# Altium schematic symbol library jlcpcb_2025_04_ferrites_extended_0805.schlib: 546 symbols (part 9 of 10)
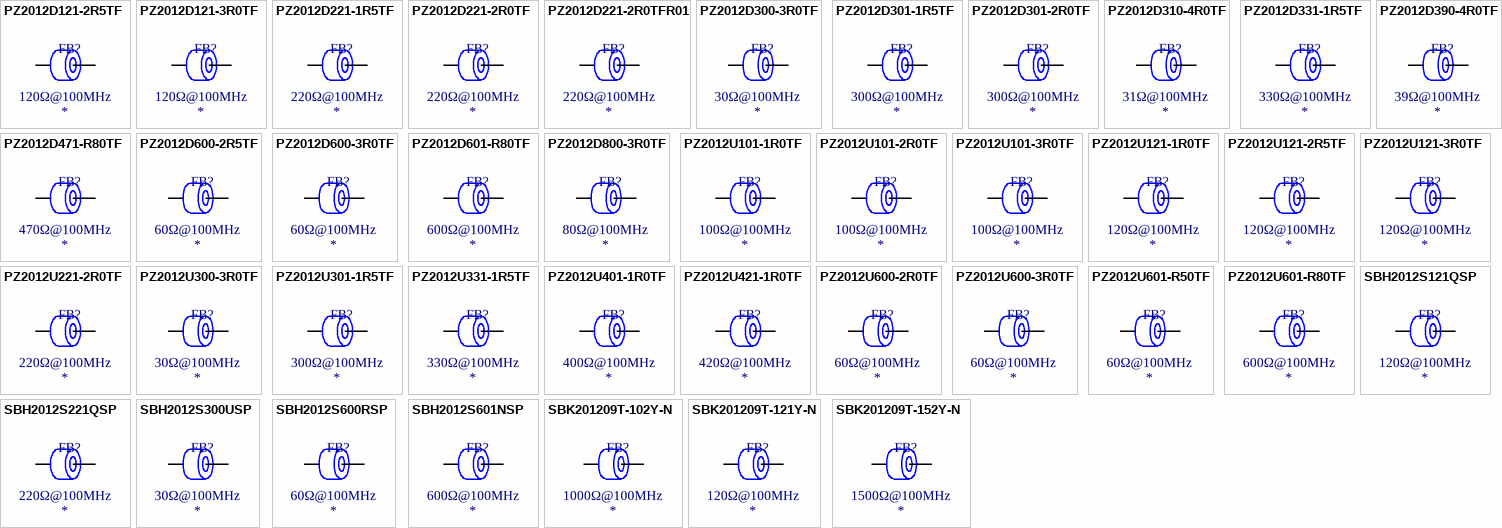
[diagram p21: symbols PZ2012D121-2R5TF to SBK201209T-152Y-N]

## PZ2012D471-R80TF
designator FB?  Impedance @ Frequency: 470Ω@100MHz
Ferrite, 470Ω@100MHz, ±25%, 0.25Ω, 800mA, SMD 0805; Manufacturer: Sunlord; Manufacturer Part Number: PZ2012D471-R80TF; Package Size: 0805; JLCPCB Basic Part: No; JLCPCB Part Number: C316419; Supplier 1: LCSC; Category: Ferrite Beads; Supplier Part Number 1: C316419; Tolerance: ±25%; Rated Current: 800mA; DC Resistance: 0.25Ω; RoHS: Yes; ComponentLink1Description: Datasheet; ComponentLink1URL: https://wmsc.lcsc.com/wmsc/upload/file/pdf/v2/lcsc/2310301641_Sunlord-PZ2012D471-R80TF_C316419.pdf; ComponentLink2Description: JLCPCB Part URL; ComponentLink2URL: https://jlcpcb.com/partdetail/C316419; ComponentLink3Description: LCSC Part URL; ComponentLink3URL: https://lcsc.com/product-detail/Ferrite-Beads_Sunlord-Sunlord-PZ2012D471-R80TF_C316419.html
footprint FB-0805 (0805 (2012M) Ferrite)
pins: 1, 2

## PZ2012D600-2R5TF
designator FB?  Impedance @ Frequency: 60Ω@100MHz
Ferrite, 60Ω@100MHz, ±25%, 2.5A, SMD 0805; Manufacturer: Sunlord; Manufacturer Part Number: PZ2012D600-2R5TF; Package Size: 0805; JLCPCB Basic Part: No; JLCPCB Part Number: C370077; Supplier 1: LCSC; Category: Ferrite Beads; Supplier Part Number 1: C370077; Tolerance: ±25%; Rated Current: 2.5A; RoHS: Yes; ComponentLink1Description: Datasheet; ComponentLink1URL: https://wmsc.lcsc.com/wmsc/upload/file/pdf/v2/lcsc/2310301641_Sunlord-PZ2012D600-2R5TF_C370077.pdf; ComponentLink2Description: JLCPCB Part URL; ComponentLink2URL: https://jlcpcb.com/partdetail/C370077; ComponentLink3Description: LCSC Part URL; ComponentLink3URL: https://lcsc.com/product-detail/Ferrite-Beads_Sunlord-Sunlord-PZ2012D600-2R5TF_C370077.html
pins: 1, 2

## PZ2012D600-3R0TF
designator FB?  Impedance @ Frequency: 60Ω@100MHz
Ferrite, 60Ω@100MHz, ±25%, 3A, SMD 0805; Manufacturer: Sunlord; Manufacturer Part Number: PZ2012D600-3R0TF; Package Size: 0805; JLCPCB Basic Part: No; JLCPCB Part Number: C59452; Supplier 1: LCSC; Category: Ferrite Beads; Supplier Part Number 1: C59452; Tolerance: ±25%; Rated Current: 3A; RoHS: Yes; ComponentLink1Description: Datasheet; ComponentLink1URL: https://wmsc.lcsc.com/wmsc/upload/file/pdf/v2/lcsc/2310301641_Sunlord-PZ2012D600-3R0TF_C59452.pdf; ComponentLink2Description: JLCPCB Part URL; ComponentLink2URL: https://jlcpcb.com/partdetail/C59452; ComponentLink3Description: LCSC Part URL; ComponentLink3URL: https://lcsc.com/product-detail/Ferrite-Beads_Sunlord-Sunlord-PZ2012D600-3R0TF_C59452.html
pins: 1, 2

## PZ2012D601-R80TF
designator FB?  Impedance @ Frequency: 600Ω@100MHz
Ferrite, 600Ω@100MHz, ±25%, 0.25Ω, 800mA, SMD 0805; Manufacturer: Sunlord; Manufacturer Part Number: PZ2012D601-R80TF; Package Size: 0805; JLCPCB Basic Part: No; JLCPCB Part Number: C74543; Supplier 1: LCSC; Category: Ferrite Beads; Supplier Part Number 1: C74543; Tolerance: ±25%; Rated Current: 800mA; DC Resistance: 0.25Ω; RoHS: Yes; ComponentLink1Description: Datasheet; ComponentLink1URL: https://wmsc.lcsc.com/wmsc/upload/file/pdf/v2/lcsc/2310301641_Sunlord-PZ2012D601-R80TF_C74543.pdf; ComponentLink2Description: JLCPCB Part URL; ComponentLink2URL: https://jlcpcb.com/partdetail/C74543; ComponentLink3Description: LCSC Part URL; ComponentLink3URL: https://lcsc.com/product-detail/Ferrite-Beads_Sunlord-Sunlord-PZ2012D601-R80TF_C74543.html
footprint FB-0805 (0805 (2012M) Ferrite)
pins: 1, 2

## PZ2012D800-3R0TF
designator FB?  Impedance @ Frequency: 80Ω@100MHz
Ferrite, 80Ω@100MHz, ±25%, 0.04Ω, 3000mA, SMD 0805; Manufacturer: Sunlord; Manufacturer Part Number: PZ2012D800-3R0TF; Package Size: 0805; JLCPCB Basic Part: No; JLCPCB Part Number: C12389; Supplier 1: LCSC; Category: Ferrite Beads; Supplier Part Number 1: C12389; Tolerance: ±25%; Rated Current: 3000mA; DC Resistance: 0.04Ω; RoHS: Yes; ComponentLink1Description: Datasheet; ComponentLink1URL: https://wmsc.lcsc.com/wmsc/upload/file/pdf/v2/lcsc/2310301641_Sunlord-PZ2012D800-3R0TF_C12389.pdf; ComponentLink2Description: JLCPCB Part URL; ComponentLink2URL: https://jlcpcb.com/partdetail/C12389; ComponentLink3Description: LCSC Part URL; ComponentLink3URL: https://lcsc.com/product-detail/Ferrite-Beads_Sunlord-Sunlord-PZ2012D800-3R0TF_C12389.html
footprint FB-0805 (0805 (2012M) Ferrite)
pins: 1, 2

## PZ2012U101-1R0TF
designator FB?  Impedance @ Frequency: 100Ω@100MHz
Ferrite, 100Ω@100MHz, ±25%, 1A, SMD 0805; Manufacturer: Sunlord; Manufacturer Part Number: PZ2012U101-1R0TF; Package Size: 0805; JLCPCB Basic Part: No; JLCPCB Part Number: C370078; Supplier 1: LCSC; Category: Ferrite Beads; Supplier Part Number 1: C370078; Tolerance: ±25%; Rated Current: 1A; RoHS: Yes; ComponentLink1Description: Datasheet; ComponentLink1URL: https://wmsc.lcsc.com/wmsc/upload/file/pdf/v2/lcsc/2310301641_Sunlord-PZ2012U101-1R0TF_C370078.pdf; ComponentLink2Description: JLCPCB Part URL; ComponentLink2URL: https://jlcpcb.com/partdetail/C370078; ComponentLink3Description: LCSC Part URL; ComponentLink3URL: https://lcsc.com/product-detail/Ferrite-Beads_Sunlord-Sunlord-PZ2012U101-1R0TF_C370078.html
pins: 1, 2

## PZ2012U101-2R0TF
designator FB?  Impedance @ Frequency: 100Ω@100MHz
Ferrite, 100Ω@100MHz, ±25%, 2A, SMD 0805; Manufacturer: Sunlord; Manufacturer Part Number: PZ2012U101-2R0TF; Package Size: 0805; JLCPCB Basic Part: No; JLCPCB Part Number: C370079; Supplier 1: LCSC; Category: Ferrite Beads; Supplier Part Number 1: C370079; Tolerance: ±25%; Rated Current: 2A; RoHS: Yes; ComponentLink1Description: Datasheet; ComponentLink1URL: https://wmsc.lcsc.com/wmsc/upload/file/pdf/v2/lcsc/2310301641_Sunlord-PZ2012U101-2R0TF_C370079.pdf; ComponentLink2Description: JLCPCB Part URL; ComponentLink2URL: https://jlcpcb.com/partdetail/C370079; ComponentLink3Description: LCSC Part URL; ComponentLink3URL: https://lcsc.com/product-detail/Ferrite-Beads_Sunlord-Sunlord-PZ2012U101-2R0TF_C370079.html
pins: 1, 2

## PZ2012U101-3R0TF
designator FB?  Impedance @ Frequency: 100Ω@100MHz
Ferrite, 100Ω@100MHz, ±25%, 3A, SMD 0805; Manufacturer: Sunlord; Manufacturer Part Number: PZ2012U101-3R0TF; Package Size: 0805; JLCPCB Basic Part: No; JLCPCB Part Number: C370080; Supplier 1: LCSC; Category: Ferrite Beads; Supplier Part Number 1: C370080; Tolerance: ±25%; Rated Current: 3A; RoHS: Yes; ComponentLink1Description: Datasheet; ComponentLink1URL: https://wmsc.lcsc.com/wmsc/upload/file/pdf/v2/lcsc/2310301641_Sunlord-PZ2012U101-3R0TF_C370080.pdf; ComponentLink2Description: JLCPCB Part URL; ComponentLink2URL: https://jlcpcb.com/partdetail/C370080; ComponentLink3Description: LCSC Part URL; ComponentLink3URL: https://lcsc.com/product-detail/Ferrite-Beads_Sunlord-Sunlord-PZ2012U101-3R0TF_C370080.html
pins: 1, 2

## PZ2012U121-1R0TF
designator FB?  Impedance @ Frequency: 120Ω@100MHz
Ferrite, 120Ω@100MHz, ±25%, 1A, SMD 0805; Manufacturer: Sunlord; Manufacturer Part Number: PZ2012U121-1R0TF; Package Size: 0805; JLCPCB Basic Part: No; JLCPCB Part Number: C370081; Supplier 1: LCSC; Category: Ferrite Beads; Supplier Part Number 1: C370081; Tolerance: ±25%; Rated Current: 1A; RoHS: Yes; ComponentLink1Description: Datasheet; ComponentLink1URL: https://wmsc.lcsc.com/wmsc/upload/file/pdf/v2/lcsc/2310301641_Sunlord-PZ2012U121-1R0TF_C370081.pdf; ComponentLink2Description: JLCPCB Part URL; ComponentLink2URL: https://jlcpcb.com/partdetail/C370081; ComponentLink3Description: LCSC Part URL; ComponentLink3URL: https://lcsc.com/product-detail/Ferrite-Beads_Sunlord-Sunlord-PZ2012U121-1R0TF_C370081.html
pins: 1, 2

## PZ2012U121-2R5TF
designator FB?  Impedance @ Frequency: 120Ω@100MHz
Ferrite, 120Ω@100MHz, ±25%, 0.04Ω, 2500mA, SMD 0805; Manufacturer: Sunlord; Manufacturer Part Number: PZ2012U121-2R5TF; Package Size: 0805; JLCPCB Basic Part: No; JLCPCB Part Number: C370083; Supplier 1: LCSC; Category: Ferrite Beads; Supplier Part Number 1: C370083; Tolerance: ±25%; Rated Current: 2500mA; DC Resistance: 0.04Ω; RoHS: Yes; ComponentLink1Description: Datasheet; ComponentLink1URL: https://wmsc.lcsc.com/wmsc/upload/file/pdf/v2/lcsc/2310301641_Sunlord-PZ2012U121-2R5TF_C370083.pdf; ComponentLink2Description: JLCPCB Part URL; ComponentLink2URL: https://jlcpcb.com/partdetail/C370083; ComponentLink3Description: LCSC Part URL; ComponentLink3URL: https://lcsc.com/product-detail/Ferrite-Beads_Sunlord-Sunlord-PZ2012U121-2R5TF_C370083.html
footprint FB-0805 (0805 (2012M) Ferrite)
pins: 1, 2

## PZ2012U121-3R0TF
designator FB?  Impedance @ Frequency: 120Ω@100MHz
Ferrite, 120Ω@100MHz, ±25%, 3A, SMD 0805; Manufacturer: Sunlord; Manufacturer Part Number: PZ2012U121-3R0TF; Package Size: 0805; JLCPCB Basic Part: No; JLCPCB Part Number: C370084; Supplier 1: LCSC; Category: Ferrite Beads; Supplier Part Number 1: C370084; Tolerance: ±25%; Rated Current: 3A; RoHS: Yes; ComponentLink1Description: Datasheet; ComponentLink1URL: https://wmsc.lcsc.com/wmsc/upload/file/pdf/v2/lcsc/2310301641_Sunlord-PZ2012U121-3R0TF_C370084.pdf; ComponentLink2Description: JLCPCB Part URL; ComponentLink2URL: https://jlcpcb.com/partdetail/C370084; ComponentLink3Description: LCSC Part URL; ComponentLink3URL: https://lcsc.com/product-detail/Ferrite-Beads_Sunlord-Sunlord-PZ2012U121-3R0TF_C370084.html
pins: 1, 2

## PZ2012U221-2R0TF
designator FB?  Impedance @ Frequency: 220Ω@100MHz
Ferrite, 220Ω@100MHz, ±25%, 0.07Ω, 2000mA, SMD 0805; Manufacturer: Sunlord; Manufacturer Part Number: PZ2012U221-2R0TF; Package Size: 0805; JLCPCB Basic Part: No; JLCPCB Part Number: C44361; Supplier 1: LCSC; Category: Ferrite Beads; Supplier Part Number 1: C44361; Tolerance: ±25%; Rated Current: 2000mA; DC Resistance: 0.07Ω; RoHS: Yes; ComponentLink1Description: Datasheet; ComponentLink1URL: https://wmsc.lcsc.com/wmsc/upload/file/pdf/v2/lcsc/2310301641_Sunlord-PZ2012U221-2R0TF_C44361.pdf; ComponentLink2Description: JLCPCB Part URL; ComponentLink2URL: https://jlcpcb.com/partdetail/C44361; ComponentLink3Description: LCSC Part URL; ComponentLink3URL: https://lcsc.com/product-detail/Ferrite-Beads_Sunlord-Sunlord-PZ2012U221-2R0TF_C44361.html
footprint FB-0805 (0805 (2012M) Ferrite)
pins: 1, 2

## PZ2012U300-3R0TF
designator FB?  Impedance @ Frequency: 30Ω@100MHz
Ferrite, 30Ω@100MHz, ±25%, 0.02Ω, 3000mA, SMD 0805; Manufacturer: Sunlord; Manufacturer Part Number: PZ2012U300-3R0TF; Package Size: 0805; JLCPCB Basic Part: No; JLCPCB Part Number: C316418; Supplier 1: LCSC; Category: Ferrite Beads; Supplier Part Number 1: C316418; Tolerance: ±25%; Rated Current: 3000mA; DC Resistance: 0.02Ω; RoHS: Yes; ComponentLink1Description: Datasheet; ComponentLink1URL: https://wmsc.lcsc.com/wmsc/upload/file/pdf/v2/lcsc/2310301641_Sunlord-PZ2012U300-3R0TF_C316418.pdf; ComponentLink2Description: JLCPCB Part URL; ComponentLink2URL: https://jlcpcb.com/partdetail/C316418; ComponentLink3Description: LCSC Part URL; ComponentLink3URL: https://lcsc.com/product-detail/Ferrite-Beads_Sunlord-Sunlord-PZ2012U300-3R0TF_C316418.html
footprint FB-0805 (0805 (2012M) Ferrite)
pins: 1, 2

## PZ2012U301-1R5TF
designator FB?  Impedance @ Frequency: 300Ω@100MHz
Ferrite, 300Ω@100MHz, ±25%, 0.1Ω, 1500mA, SMD 0805; Manufacturer: Sunlord; Manufacturer Part Number: PZ2012U301-1R5TF; Package Size: 0805; JLCPCB Basic Part: No; JLCPCB Part Number: C98291; Supplier 1: LCSC; Category: Ferrite Beads; Supplier Part Number 1: C98291; Tolerance: ±25%; Rated Current: 1500mA; DC Resistance: 0.1Ω; RoHS: Yes; ComponentLink1Description: Datasheet; ComponentLink1URL: https://wmsc.lcsc.com/wmsc/upload/file/pdf/v2/lcsc/2310301641_Sunlord-PZ2012U301-1R5TF_C98291.pdf; ComponentLink2Description: JLCPCB Part URL; ComponentLink2URL: https://jlcpcb.com/partdetail/C98291; ComponentLink3Description: LCSC Part URL; ComponentLink3URL: https://lcsc.com/product-detail/Ferrite-Beads_Sunlord-Sunlord-PZ2012U301-1R5TF_C98291.html
footprint FB-0805 (0805 (2012M) Ferrite)
pins: 1, 2

## PZ2012U331-1R5TF
designator FB?  Impedance @ Frequency: 330Ω@100MHz
Ferrite, 330Ω@100MHz, ±25%, 1.5A, SMD 0805; Manufacturer: Sunlord; Manufacturer Part Number: PZ2012U331-1R5TF; Package Size: 0805; JLCPCB Basic Part: No; JLCPCB Part Number: C279860; Supplier 1: LCSC; Category: Ferrite Beads; Supplier Part Number 1: C279860; Tolerance: ±25%; Rated Current: 1.5A; RoHS: Yes; ComponentLink1Description: Datasheet; ComponentLink1URL: https://wmsc.lcsc.com/wmsc/upload/file/pdf/v2/lcsc/2310301641_Sunlord-PZ2012U331-1R5TF_C279860.pdf; ComponentLink2Description: JLCPCB Part URL; ComponentLink2URL: https://jlcpcb.com/partdetail/C279860; ComponentLink3Description: LCSC Part URL; ComponentLink3URL: https://lcsc.com/product-detail/Ferrite-Beads_Sunlord-Sunlord-PZ2012U331-1R5TF_C279860.html
pins: 1, 2

## PZ2012U401-1R0TF
designator FB?  Impedance @ Frequency: 400Ω@100MHz
Ferrite, 400Ω@100MHz, ±25%, 1A, SMD 0805; Manufacturer: Sunlord; Manufacturer Part Number: PZ2012U401-1R0TF; Package Size: 0805; JLCPCB Basic Part: No; JLCPCB Part Number: C919154; Supplier 1: LCSC; Category: Ferrite Beads; Supplier Part Number 1: C919154; Tolerance: ±25%; Rated Current: 1A; RoHS: Yes; ComponentLink1Description: Datasheet; ComponentLink1URL: https://wmsc.lcsc.com/wmsc/upload/file/pdf/v2/lcsc/2310301641_Sunlord-PZ2012U401-1R0TF_C919154.pdf; ComponentLink2Description: JLCPCB Part URL; ComponentLink2URL: https://jlcpcb.com/partdetail/C919154; ComponentLink3Description: LCSC Part URL; ComponentLink3URL: https://lcsc.com/product-detail/Ferrite-Beads_Sunlord-Sunlord-PZ2012U401-1R0TF_C919154.html
pins: 1, 2

## PZ2012U421-1R0TF
designator FB?  Impedance @ Frequency: 420Ω@100MHz
Ferrite, 420Ω@100MHz, ±25%, 0.2Ω, 1A, SMD 0805; Manufacturer: Sunlord; Manufacturer Part Number: PZ2012U421-1R0TF; Package Size: 0805; JLCPCB Basic Part: No; JLCPCB Part Number: C370086; Supplier 1: LCSC; Category: Ferrite Beads; Supplier Part Number 1: C370086; Tolerance: ±25%; Rated Current: 1A; DC Resistance: 0.2Ω; RoHS: Yes; ComponentLink1Description: Datasheet; ComponentLink1URL: https://wmsc.lcsc.com/wmsc/upload/file/pdf/v2/lcsc/2310301641_Sunlord-PZ2012U421-1R0TF_C370086.pdf; ComponentLink2Description: JLCPCB Part URL; ComponentLink2URL: https://jlcpcb.com/partdetail/C370086; ComponentLink3Description: LCSC Part URL; ComponentLink3URL: https://lcsc.com/product-detail/Ferrite-Beads_Sunlord-Sunlord-PZ2012U421-1R0TF_C370086.html
footprint FB-0805 (0805 (2012M) Ferrite)
pins: 1, 2

## PZ2012U600-2R0TF
designator FB?  Impedance @ Frequency: 60Ω@100MHz
Ferrite, 60Ω@100MHz, ±25%, 2A, SMD 0805; Manufacturer: Sunlord; Manufacturer Part Number: PZ2012U600-2R0TF; Package Size: 0805; JLCPCB Basic Part: No; JLCPCB Part Number: C370087; Supplier 1: LCSC; Category: Ferrite Beads; Supplier Part Number 1: C370087; Tolerance: ±25%; Rated Current: 2A; RoHS: Yes; ComponentLink1Description: Datasheet; ComponentLink1URL: https://wmsc.lcsc.com/wmsc/upload/file/pdf/v2/lcsc/2310301641_Sunlord-PZ2012U600-2R0TF_C370087.pdf; ComponentLink2Description: JLCPCB Part URL; ComponentLink2URL: https://jlcpcb.com/partdetail/C370087; ComponentLink3Description: LCSC Part URL; ComponentLink3URL: https://lcsc.com/product-detail/Ferrite-Beads_Sunlord-Sunlord-PZ2012U600-2R0TF_C370087.html
pins: 1, 2

## PZ2012U600-3R0TF
designator FB?  Impedance @ Frequency: 60Ω@100MHz
Ferrite, 60Ω@100MHz, ±25%, 0.025Ω, 3000mA, SMD 0805; Manufacturer: Sunlord; Manufacturer Part Number: PZ2012U600-3R0TF; Package Size: 0805; JLCPCB Basic Part: No; JLCPCB Part Number: C44362; Supplier 1: LCSC; Category: Ferrite Beads; Supplier Part Number 1: C44362; Tolerance: ±25%; Rated Current: 3000mA; DC Resistance: 0.025Ω; RoHS: Yes; ComponentLink1Description: Datasheet; ComponentLink1URL: https://wmsc.lcsc.com/wmsc/upload/file/pdf/v2/lcsc/2310301641_Sunlord-PZ2012U600-3R0TF_C44362.pdf; ComponentLink2Description: JLCPCB Part URL; ComponentLink2URL: https://jlcpcb.com/partdetail/C44362; ComponentLink3Description: LCSC Part URL; ComponentLink3URL: https://lcsc.com/product-detail/Ferrite-Beads_Sunlord-Sunlord-PZ2012U600-3R0TF_C44362.html
footprint FB-0805 (0805 (2012M) Ferrite)
pins: 1, 2

## PZ2012U601-R50TF
designator FB?  Impedance @ Frequency: 60Ω@100MHz
Ferrite, 60Ω@100MHz, ±25%, 0.5A, SMD 0805; Manufacturer: Sunlord; Manufacturer Part Number: PZ2012U601-R50TF; Package Size: 0805; JLCPCB Basic Part: No; JLCPCB Part Number: C370088; Supplier 1: LCSC; Category: Ferrite Beads; Supplier Part Number 1: C370088; Tolerance: ±25%; Rated Current: 0.5A; RoHS: Yes; ComponentLink1Description: Datasheet; ComponentLink1URL: https://wmsc.lcsc.com/wmsc/upload/file/pdf/v2/lcsc/2310301641_Sunlord-PZ2012U601-R50TF_C370088.pdf; ComponentLink2Description: JLCPCB Part URL; ComponentLink2URL: https://jlcpcb.com/partdetail/C370088; ComponentLink3Description: LCSC Part URL; ComponentLink3URL: https://lcsc.com/product-detail/Ferrite-Beads_Sunlord-Sunlord-PZ2012U601-R50TF_C370088.html
pins: 1, 2

## PZ2012U601-R80TF
designator FB?  Impedance @ Frequency: 600Ω@100MHz
Ferrite, 600Ω@100MHz, ±25%, 0.25Ω, 800mA, SMD 0805; Manufacturer: Sunlord; Manufacturer Part Number: PZ2012U601-R80TF; Package Size: 0805; JLCPCB Basic Part: No; JLCPCB Part Number: C279926; Supplier 1: LCSC; Category: Ferrite Beads; Supplier Part Number 1: C279926; Tolerance: ±25%; Rated Current: 800mA; DC Resistance: 0.25Ω; RoHS: Yes; ComponentLink1Description: Datasheet; ComponentLink1URL: https://wmsc.lcsc.com/wmsc/upload/file/pdf/v2/lcsc/2310301641_Sunlord-PZ2012U601-R80TF_C279926.pdf; ComponentLink2Description: JLCPCB Part URL; ComponentLink2URL: https://jlcpcb.com/partdetail/C279926; ComponentLink3Description: LCSC Part URL; ComponentLink3URL: https://lcsc.com/product-detail/Ferrite-Beads_Sunlord-Sunlord-PZ2012U601-R80TF_C279926.html
footprint FB-0805 (0805 (2012M) Ferrite)
pins: 1, 2

## SBH2012S121QSP
designator FB?  Impedance @ Frequency: 120Ω@100MHz
Ferrite, 120Ω@100MHz, ±25%, 55mΩ, 3A, SMD 0805; Manufacturer: Sunltech Tech; Manufacturer Part Number: SBH2012S121QSP; Package Size: 0805; JLCPCB Basic Part: No; JLCPCB Part Number: C216150; Supplier 1: LCSC; Category: Ferrite Beads; Supplier Part Number 1: C216150; Tolerance: ±25%; Rated Current: 3A; DC Resistance: 55mΩ; RoHS: Yes; ComponentLink1Description: Datasheet; ComponentLink1URL: https://wmsc.lcsc.com/wmsc/upload/file/pdf/v2/lcsc/2304140030_Sunltech-Tech-SBH2012S121QSP_C216150.pdf; ComponentLink2Description: JLCPCB Part URL; ComponentLink2URL: https://jlcpcb.com/partdetail/C216150; ComponentLink3Description: LCSC Part URL; ComponentLink3URL: https://lcsc.com/product-detail/Ferrite-Beads_Sunltech-Tech-Sunltech-Tech-SBH2012S121QSP_C216150.html
footprint FB-0805 (0805 (2012M) Ferrite)
pins: 1, 2

## SBH2012S221QSP
designator FB?  Impedance @ Frequency: 220Ω@100MHz
Ferrite, 220Ω@100MHz, ±25%, 75mΩ, 3A, SMD 0805; Manufacturer: Sunltech Tech; Manufacturer Part Number: SBH2012S221QSP; Package Size: 0805; JLCPCB Basic Part: No; JLCPCB Part Number: C216151; Supplier 1: LCSC; Category: Ferrite Beads; Supplier Part Number 1: C216151; Tolerance: ±25%; Rated Current: 3A; DC Resistance: 75mΩ; RoHS: Yes; ComponentLink1Description: Datasheet; ComponentLink1URL: https://wmsc.lcsc.com/wmsc/upload/file/pdf/v2/lcsc/2304140030_Sunltech-Tech-SBH2012S221QSP_C216151.pdf; ComponentLink2Description: JLCPCB Part URL; ComponentLink2URL: https://jlcpcb.com/partdetail/C216151; ComponentLink3Description: LCSC Part URL; ComponentLink3URL: https://lcsc.com/product-detail/Ferrite-Beads_Sunltech-Tech-Sunltech-Tech-SBH2012S221QSP_C216151.html
footprint FB-0805 (0805 (2012M) Ferrite)
pins: 1, 2

## SBH2012S300USP
designator FB?  Impedance @ Frequency: 30Ω@100MHz
Ferrite, 30Ω@100MHz, ±25%, 30mΩ, 5A, SMD 0805; Manufacturer: Sunltech Tech; Manufacturer Part Number: SBH2012S300USP; Package Size: 0805; JLCPCB Basic Part: No; JLCPCB Part Number: C216148; Supplier 1: LCSC; Category: Ferrite Beads; Supplier Part Number 1: C216148; Tolerance: ±25%; Rated Current: 5A; DC Resistance: 30mΩ; RoHS: Yes; ComponentLink1Description: Datasheet; ComponentLink1URL: https://wmsc.lcsc.com/wmsc/upload/file/pdf/v2/lcsc/2304140030_Sunltech-Tech-SBH2012S300USP_C216148.pdf; ComponentLink2Description: JLCPCB Part URL; ComponentLink2URL: https://jlcpcb.com/partdetail/C216148; ComponentLink3Description: LCSC Part URL; ComponentLink3URL: https://lcsc.com/product-detail/Ferrite-Beads_Sunltech-Tech-Sunltech-Tech-SBH2012S300USP_C216148.html
footprint FB-0805 (0805 (2012M) Ferrite)
pins: 1, 2

## SBH2012S600RSP
designator FB?  Impedance @ Frequency: 60Ω@100MHz
Ferrite, 60Ω@100MHz, ±25%, 35mΩ, 4A, SMD 0805; Manufacturer: Sunltech Tech; Manufacturer Part Number: SBH2012S600RSP; Package Size: 0805; JLCPCB Basic Part: No; JLCPCB Part Number: C216149; Supplier 1: LCSC; Category: Ferrite Beads; Supplier Part Number 1: C216149; Tolerance: ±25%; Rated Current: 4A; DC Resistance: 35mΩ; RoHS: Yes; ComponentLink1Description: Datasheet; ComponentLink1URL: https://wmsc.lcsc.com/wmsc/upload/file/pdf/v2/lcsc/2304140030_Sunltech-Tech-SBH2012S600RSP_C216149.pdf; ComponentLink2Description: JLCPCB Part URL; ComponentLink2URL: https://jlcpcb.com/partdetail/C216149; ComponentLink3Description: LCSC Part URL; ComponentLink3URL: https://lcsc.com/product-detail/Ferrite-Beads_Sunltech-Tech-Sunltech-Tech-SBH2012S600RSP_C216149.html
footprint FB-0805 (0805 (2012M) Ferrite)
pins: 1, 2

## SBH2012S601NSP
designator FB?  Impedance @ Frequency: 600Ω@100MHz
Ferrite, 600Ω@100MHz, ±25%, 90mΩ, 2A, SMD 0805; Manufacturer: Sunltech Tech; Manufacturer Part Number: SBH2012S601NSP; Package Size: 0805; JLCPCB Basic Part: No; JLCPCB Part Number: C216152; Supplier 1: LCSC; Category: Ferrite Beads; Supplier Part Number 1: C216152; Tolerance: ±25%; Rated Current: 2A; DC Resistance: 90mΩ; RoHS: Yes; ComponentLink1Description: Datasheet; ComponentLink1URL: https://wmsc.lcsc.com/wmsc/upload/file/pdf/v2/lcsc/1809191131_Sunltech-Tech-SBH2012S601NSP_C216152.pdf; ComponentLink2Description: JLCPCB Part URL; ComponentLink2URL: https://jlcpcb.com/partdetail/C216152; ComponentLink3Description: LCSC Part URL; ComponentLink3URL: https://lcsc.com/product-detail/Ferrite-Beads_Sunltech-Tech-Sunltech-Tech-SBH2012S601NSP_C216152.html
footprint FB-0805 (0805 (2012M) Ferrite)
pins: 1, 2

## SBK201209T-102Y-N
designator FB?  Impedance @ Frequency: 1000Ω@100MHz
Ferrite, 1000Ω@100MHz, ±25%, 0.5Ω, 200mA, SMD 0805; Manufacturer: Chilisin Elec; Manufacturer Part Number: SBK201209T-102Y-N; Package Size: 0805; JLCPCB Basic Part: No; JLCPCB Part Number: C142036; Supplier 1: LCSC; Category: Ferrite Beads; Supplier Part Number 1: C142036; Tolerance: ±25%; Rated Current: 200mA; DC Resistance: 0.5Ω; RoHS: Yes; ComponentLink1Description: Datasheet; ComponentLink1URL: https://wmsc.lcsc.com/wmsc/upload/file/pdf/v2/lcsc/2304140030_Chilisin-Elec-SBK201209T-102Y-N_C142036.pdf; ComponentLink2Description: JLCPCB Part URL; ComponentLink2URL: https://jlcpcb.com/partdetail/C142036; ComponentLink3Description: LCSC Part URL; ComponentLink3URL: https://lcsc.com/product-detail/Ferrite-Beads_Chilisin-Elec-Chilisin-Elec-SBK201209T-102Y-N_C142036.html
footprint FB-0805 (0805 (2012M) Ferrite)
pins: 1, 2

## SBK201209T-121Y-N
designator FB?  Impedance @ Frequency: 120Ω@100MHz
Ferrite, 120Ω@100MHz, ±25%, 0.25Ω, 300mA, SMD 0805; Manufacturer: Chilisin Elec; Manufacturer Part Number: SBK201209T-121Y-N; Package Size: 0805; JLCPCB Basic Part: No; JLCPCB Part Number: C285648; Supplier 1: LCSC; Category: Ferrite Beads; Supplier Part Number 1: C285648; Tolerance: ±25%; Rated Current: 300mA; DC Resistance: 0.25Ω; RoHS: Yes; ComponentLink1Description: Datasheet; ComponentLink1URL: https://wmsc.lcsc.com/wmsc/upload/file/pdf/v2/lcsc/2304140030_Chilisin-Elec-SBK201209T-121Y-N_C285648.pdf; ComponentLink2Description: JLCPCB Part URL; ComponentLink2URL: https://jlcpcb.com/partdetail/C285648; ComponentLink3Description: LCSC Part URL; ComponentLink3URL: https://lcsc.com/product-detail/Ferrite-Beads_Chilisin-Elec-Chilisin-Elec-SBK201209T-121Y-N_C285648.html
footprint FB-0805 (0805 (2012M) Ferrite)
pins: 1, 2

## SBK201209T-152Y-N
designator FB?  Impedance @ Frequency: 1500Ω@100MHz
Ferrite, 1500Ω@100MHz, ±25%, 0.6Ω, 200mA, SMD 0805; Manufacturer: Chilisin Elec; Manufacturer Part Number: SBK201209T-152Y-N; Package Size: 0805; JLCPCB Basic Part: No; JLCPCB Part Number: C142035; Supplier 1: LCSC; Category: Ferrite Beads; Supplier Part Number 1: C142035; Tolerance: ±25%; Rated Current: 200mA; DC Resistance: 0.6Ω; RoHS: Yes; ComponentLink1Description: Datasheet; ComponentLink1URL: https://wmsc.lcsc.com/wmsc/upload/file/pdf/v2/lcsc/2304140030_Chilisin-Elec-SBK201209T-152Y-N_C142035.pdf; ComponentLink2Description: JLCPCB Part URL; ComponentLink2URL: https://jlcpcb.com/partdetail/C142035; ComponentLink3Description: LCSC Part URL; ComponentLink3URL: https://lcsc.com/product-detail/Ferrite-Beads_Chilisin-Elec-Chilisin-Elec-SBK201209T-152Y-N_C142035.html
footprint FB-0805 (0805 (2012M) Ferrite)
pins: 1, 2

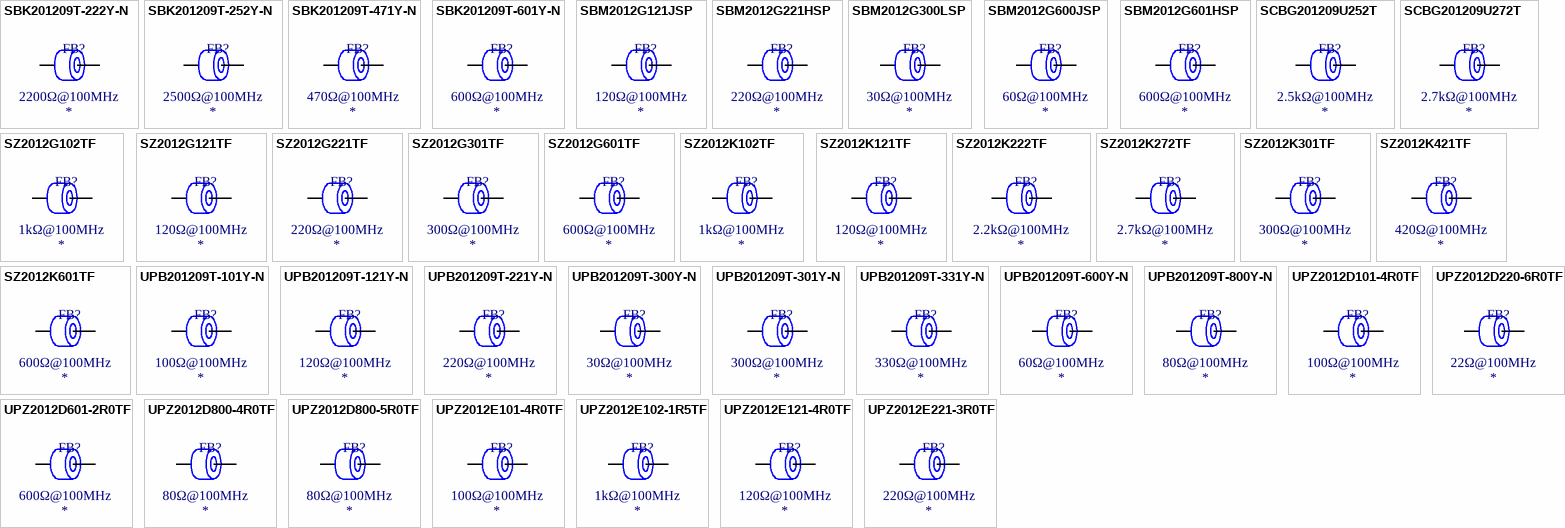
[diagram p12: symbols SBK201209T-222Y-N to UPZ2012E221-3R0TF]

## SBK201209T-222Y-N
designator FB?  Impedance @ Frequency: 2200Ω@100MHz
Ferrite, 2200Ω@100MHz, ±25%, 0.7Ω, 200mA, SMD 0805; Manufacturer: Chilisin Elec; Manufacturer Part Number: SBK201209T-222Y-N; Package Size: 0805; JLCPCB Basic Part: No; JLCPCB Part Number: C280692; Supplier 1: LCSC; Category: Ferrite Beads; Supplier Part Number 1: C280692; Tolerance: ±25%; Rated Current: 200mA; DC Resistance: 0.7Ω; RoHS: Yes; ComponentLink1Description: Datasheet; ComponentLink1URL: https://wmsc.lcsc.com/wmsc/upload/file/pdf/v2/lcsc/2304140030_Chilisin-Elec-SBK201209T-222Y-N_C280692.pdf; ComponentLink2Description: JLCPCB Part URL; ComponentLink2URL: https://jlcpcb.com/partdetail/C280692; ComponentLink3Description: LCSC Part URL; ComponentLink3URL: https://lcsc.com/product-detail/Ferrite-Beads_Chilisin-Elec-Chilisin-Elec-SBK201209T-222Y-N_C280692.html
footprint FB-0805 (0805 (2012M) Ferrite)
pins: 1, 2

## SBK201209T-252Y-N
designator FB?  Impedance @ Frequency: 2500Ω@100MHz
Ferrite, 2500Ω@100MHz, ±25%, 0.7Ω, 200mA, SMD 0805; Manufacturer: Chilisin Elec; Manufacturer Part Number: SBK201209T-252Y-N; Package Size: 0805; JLCPCB Basic Part: No; JLCPCB Part Number: C285647; Supplier 1: LCSC; Category: Ferrite Beads; Supplier Part Number 1: C285647; Tolerance: ±25%; Rated Current: 200mA; DC Resistance: 0.7Ω; RoHS: Yes; ComponentLink1Description: Datasheet; ComponentLink1URL: https://wmsc.lcsc.com/wmsc/upload/file/pdf/v2/lcsc/2304140030_Chilisin-Elec-SBK201209T-252Y-N_C285647.pdf; ComponentLink2Description: JLCPCB Part URL; ComponentLink2URL: https://jlcpcb.com/partdetail/C285647; ComponentLink3Description: LCSC Part URL; ComponentLink3URL: https://lcsc.com/product-detail/Ferrite-Beads_Chilisin-Elec-Chilisin-Elec-SBK201209T-252Y-N_C285647.html
footprint FB-0805 (0805 (2012M) Ferrite)
pins: 1, 2

## SBK201209T-471Y-N
designator FB?  Impedance @ Frequency: 470Ω@100MHz
Ferrite, 470Ω@100MHz, ±25%, 0.4Ω, 300mA, SMD 0805; Manufacturer: Chilisin Elec; Manufacturer Part Number: SBK201209T-471Y-N; Package Size: 0805; JLCPCB Basic Part: No; JLCPCB Part Number: C280694; Supplier 1: LCSC; Category: Ferrite Beads; Supplier Part Number 1: C280694; Tolerance: ±25%; Rated Current: 300mA; DC Resistance: 0.4Ω; RoHS: Yes; ComponentLink1Description: Datasheet; ComponentLink1URL: https://wmsc.lcsc.com/wmsc/upload/file/pdf/v2/lcsc/1912111437_Chilisin-Elec-SBK201209T-471Y-N_C280694.pdf; ComponentLink2Description: JLCPCB Part URL; ComponentLink2URL: https://jlcpcb.com/partdetail/C280694; ComponentLink3Description: LCSC Part URL; ComponentLink3URL: https://lcsc.com/product-detail/Ferrite-Beads_Chilisin-Elec-Chilisin-Elec-SBK201209T-471Y-N_C280694.html
footprint FB-0805 (0805 (2012M) Ferrite)
pins: 1, 2

## SBK201209T-601Y-N
designator FB?  Impedance @ Frequency: 600Ω@100MHz
Ferrite, 600Ω@100MHz, ±25%, 0.4Ω, 300mA, SMD 0805; Manufacturer: Chilisin Elec; Manufacturer Part Number: SBK201209T-601Y-N; Package Size: 0805; JLCPCB Basic Part: No; JLCPCB Part Number: C108306; Supplier 1: LCSC; Category: Ferrite Beads; Supplier Part Number 1: C108306; Tolerance: ±25%; Rated Current: 300mA; DC Resistance: 0.4Ω; RoHS: Yes; ComponentLink1Description: Datasheet; ComponentLink1URL: https://wmsc.lcsc.com/wmsc/upload/file/pdf/v2/lcsc/2304140030_Chilisin-Elec-SBK201209T-601Y-N_C108306.pdf; ComponentLink2Description: JLCPCB Part URL; ComponentLink2URL: https://jlcpcb.com/partdetail/C108306; ComponentLink3Description: LCSC Part URL; ComponentLink3URL: https://lcsc.com/product-detail/Ferrite-Beads_Chilisin-Elec-Chilisin-Elec-SBK201209T-601Y-N_C108306.html
footprint FB-0805 (0805 (2012M) Ferrite)
pins: 1, 2

## SBM2012G121JSP
designator FB?  Impedance @ Frequency: 120Ω@100MHz
Ferrite, 120Ω@100MHz, ±25%, 220mΩ, 800mA, SMD 0805; Manufacturer: Sunltech Tech; Manufacturer Part Number: SBM2012G121JSP; Package Size: 0805; JLCPCB Basic Part: No; JLCPCB Part Number: C216135; Supplier 1: LCSC; Category: Ferrite Beads; Supplier Part Number 1: C216135; Tolerance: ±25%; Rated Current: 800mA; DC Resistance: 220mΩ; RoHS: Yes; ComponentLink1Description: Datasheet; ComponentLink1URL: https://wmsc.lcsc.com/wmsc/upload/file/pdf/v2/lcsc/2304140030_Sunltech-Tech-SBM2012G121JSP_C216135.pdf; ComponentLink2Description: JLCPCB Part URL; ComponentLink2URL: https://jlcpcb.com/partdetail/C216135; ComponentLink3Description: LCSC Part URL; ComponentLink3URL: https://lcsc.com/product-detail/Ferrite-Beads_Sunltech-Tech-Sunltech-Tech-SBM2012G121JSP_C216135.html
footprint FB-0805 (0805 (2012M) Ferrite)
pins: 1, 2

## SBM2012G221HSP
designator FB?  Impedance @ Frequency: 220Ω@100MHz
Ferrite, 220Ω@100MHz, ±25%, 250mΩ, 600mA, SMD 0805; Manufacturer: Sunltech Tech; Manufacturer Part Number: SBM2012G221HSP; Package Size: 0805; JLCPCB Basic Part: No; JLCPCB Part Number: C216136; Supplier 1: LCSC; Category: Ferrite Beads; Supplier Part Number 1: C216136; Tolerance: ±25%; Rated Current: 600mA; DC Resistance: 250mΩ; RoHS: Yes; ComponentLink1Description: Datasheet; ComponentLink1URL: https://wmsc.lcsc.com/wmsc/upload/file/pdf/v2/lcsc/2304140030_Sunltech-Tech-SBM2012G221HSP_C216136.pdf; ComponentLink2Description: JLCPCB Part URL; ComponentLink2URL: https://jlcpcb.com/partdetail/C216136; ComponentLink3Description: LCSC Part URL; ComponentLink3URL: https://lcsc.com/product-detail/Ferrite-Beads_Sunltech-Tech-Sunltech-Tech-SBM2012G221HSP_C216136.html
footprint FB-0805 (0805 (2012M) Ferrite)
pins: 1, 2

## SBM2012G300LSP
designator FB?  Impedance @ Frequency: 30Ω@100MHz
Ferrite, 30Ω@100MHz, ±25%, 100mΩ, 1A, SMD 0805; Manufacturer: Sunltech Tech; Manufacturer Part Number: SBM2012G300LSP; Package Size: 0805; JLCPCB Basic Part: No; JLCPCB Part Number: C216133; Supplier 1: LCSC; Category: Ferrite Beads; Supplier Part Number 1: C216133; Tolerance: ±25%; Rated Current: 1A; DC Resistance: 100mΩ; RoHS: Yes; ComponentLink1Description: Datasheet; ComponentLink1URL: https://wmsc.lcsc.com/wmsc/upload/file/pdf/v2/lcsc/2304140030_Sunltech-Tech-SBM2012G300LSP_C216133.pdf; ComponentLink2Description: JLCPCB Part URL; ComponentLink2URL: https://jlcpcb.com/partdetail/C216133; ComponentLink3Description: LCSC Part URL; ComponentLink3URL: https://lcsc.com/product-detail/Ferrite-Beads_Sunltech-Tech-Sunltech-Tech-SBM2012G300LSP_C216133.html
footprint FB-0805 (0805 (2012M) Ferrite)
pins: 1, 2

## SBM2012G600JSP
designator FB?  Impedance @ Frequency: 60Ω@100MHz
Ferrite, 60Ω@100MHz, ±25%, 200mΩ, 800mA, SMD 0805; Manufacturer: Sunltech Tech; Manufacturer Part Number: SBM2012G600JSP; Package Size: 0805; JLCPCB Basic Part: No; JLCPCB Part Number: C216134; Supplier 1: LCSC; Category: Ferrite Beads; Supplier Part Number 1: C216134; Tolerance: ±25%; Rated Current: 800mA; DC Resistance: 200mΩ; RoHS: Yes; ComponentLink1Description: Datasheet; ComponentLink1URL: https://wmsc.lcsc.com/wmsc/upload/file/pdf/v2/lcsc/1809041543_Sunltech-Tech-SBM2012G600JSP_C216134.pdf; ComponentLink2Description: JLCPCB Part URL; ComponentLink2URL: https://jlcpcb.com/partdetail/C216134; ComponentLink3Description: LCSC Part URL; ComponentLink3URL: https://lcsc.com/product-detail/Ferrite-Beads_Sunltech-Tech-Sunltech-Tech-SBM2012G600JSP_C216134.html
footprint FB-0805 (0805 (2012M) Ferrite)
pins: 1, 2

## SBM2012G601HSP
designator FB?  Impedance @ Frequency: 600Ω@100MHz
Ferrite, 600Ω@100MHz, ±25%, 350mΩ, 600mA, SMD 0805; Manufacturer: Sunltech Tech; Manufacturer Part Number: SBM2012G601HSP; Package Size: 0805; JLCPCB Basic Part: No; JLCPCB Part Number: C216137; Supplier 1: LCSC; Category: Ferrite Beads; Supplier Part Number 1: C216137; Tolerance: ±25%; Rated Current: 600mA; DC Resistance: 350mΩ; RoHS: Yes; ComponentLink1Description: Datasheet; ComponentLink1URL: https://wmsc.lcsc.com/wmsc/upload/file/pdf/v2/lcsc/1809112016_Sunltech-Tech-SBM2012G601HSP_C216137.pdf; ComponentLink2Description: JLCPCB Part URL; ComponentLink2URL: https://jlcpcb.com/partdetail/C216137; ComponentLink3Description: LCSC Part URL; ComponentLink3URL: https://lcsc.com/product-detail/Ferrite-Beads_Sunltech-Tech-Sunltech-Tech-SBM2012G601HSP_C216137.html
footprint FB-0805 (0805 (2012M) Ferrite)
pins: 1, 2

## SCBG201209U252T
designator FB?  Impedance @ Frequency: 2.5kΩ@100MHz
Ferrite, 2.5kΩ@100MHz, ±25%, 1.2Ω, 50mA, SMD 0805; Manufacturer: Yanchuang; Manufacturer Part Number: SCBG201209U252T; Package Size: 0805; JLCPCB Basic Part: No; JLCPCB Part Number: C482679; Supplier 1: LCSC; Category: Ferrite Beads; Supplier Part Number 1: C482679; Tolerance: ±25%; Rated Current: 50mA; DC Resistance: 1.2Ω; RoHS: Yes; ComponentLink1Description: Datasheet; ComponentLink1URL: https://wmsc.lcsc.com/wmsc/upload/file/pdf/v2/lcsc/2304140030_Yanchuang-SCBG201209U252T_C482679.pdf; ComponentLink2Description: JLCPCB Part URL; ComponentLink2URL: https://jlcpcb.com/partdetail/C482679; ComponentLink3Description: LCSC Part URL; ComponentLink3URL: https://lcsc.com/product-detail/Ferrite-Beads_Yanchuang-Yanchuang-SCBG201209U252T_C482679.html
footprint FB-0805 (0805 (2012M) Ferrite)
pins: 1, 2

## SCBG201209U272T
designator FB?  Impedance @ Frequency: 2.7kΩ@100MHz
Ferrite, 2.7kΩ@100MHz, ±25%, 1.4Ω, 30mA, SMD 0805; Manufacturer: Yanchuang; Manufacturer Part Number: SCBG201209U272T; Package Size: 0805; JLCPCB Basic Part: No; JLCPCB Part Number: C482680; Supplier 1: LCSC; Category: Ferrite Beads; Supplier Part Number 1: C482680; Tolerance: ±25%; Rated Current: 30mA; DC Resistance: 1.4Ω; RoHS: Yes; ComponentLink1Description: Datasheet; ComponentLink1URL: https://wmsc.lcsc.com/wmsc/upload/file/pdf/v2/lcsc/2304140030_Yanchuang-SCBG201209U272T_C482680.pdf; ComponentLink2Description: JLCPCB Part URL; ComponentLink2URL: https://jlcpcb.com/partdetail/C482680; ComponentLink3Description: LCSC Part URL; ComponentLink3URL: https://lcsc.com/product-detail/Ferrite-Beads_Yanchuang-Yanchuang-SCBG201209U272T_C482680.html
footprint FB-0805 (0805 (2012M) Ferrite)
pins: 1, 2

## SZ2012G102TF
designator FB?  Impedance @ Frequency: 1kΩ@100MHz
Ferrite, 1kΩ@100MHz, ±25%, 500mΩ, 500mA, SMD 0805; Manufacturer: Sunlord; Manufacturer Part Number: SZ2012G102TF; Package Size: 0805; JLCPCB Basic Part: No; JLCPCB Part Number: C98284; Supplier 1: LCSC; Category: Ferrite Beads; Supplier Part Number 1: C98284; Tolerance: ±25%; Rated Current: 500mA; DC Resistance: 500mΩ; RoHS: Yes; ComponentLink1Description: Datasheet; ComponentLink1URL: https://wmsc.lcsc.com/wmsc/upload/file/pdf/v2/lcsc/2310301641_Sunlord-SZ2012G102TF_C98284.pdf; ComponentLink2Description: JLCPCB Part URL; ComponentLink2URL: https://jlcpcb.com/partdetail/C98284; ComponentLink3Description: LCSC Part URL; ComponentLink3URL: https://lcsc.com/product-detail/Ferrite-Beads_Sunlord-Sunlord-SZ2012G102TF_C98284.html
footprint FB-0805 (0805 (2012M) Ferrite)
pins: 1, 2

## SZ2012G121TF
designator FB?  Impedance @ Frequency: 120Ω@100MHz
Ferrite, 120Ω@100MHz, ±25%, 250mΩ, 600mA, SMD 0805; Manufacturer: Sunlord; Manufacturer Part Number: SZ2012G121TF; Package Size: 0805; JLCPCB Basic Part: No; JLCPCB Part Number: C98281; Supplier 1: LCSC; Category: Ferrite Beads; Supplier Part Number 1: C98281; Tolerance: ±25%; Rated Current: 600mA; DC Resistance: 250mΩ; RoHS: Yes; ComponentLink1Description: Datasheet; ComponentLink1URL: https://wmsc.lcsc.com/wmsc/upload/file/pdf/v2/lcsc/2310301641_Sunlord-SZ2012G121TF_C98281.pdf; ComponentLink2Description: JLCPCB Part URL; ComponentLink2URL: https://jlcpcb.com/partdetail/C98281; ComponentLink3Description: LCSC Part URL; ComponentLink3URL: https://lcsc.com/product-detail/Ferrite-Beads_Sunlord-Sunlord-SZ2012G121TF_C98281.html
footprint FB-0805 (0805 (2012M) Ferrite)
pins: 1, 2

## SZ2012G221TF
designator FB?  Impedance @ Frequency: 220Ω@100MHz
Ferrite, 220Ω@100MHz, ±25%, 300mΩ, 600mA, SMD 0805; Manufacturer: Sunlord; Manufacturer Part Number: SZ2012G221TF; Package Size: 0805; JLCPCB Basic Part: No; JLCPCB Part Number: C98282; Supplier 1: LCSC; Category: Ferrite Beads; Supplier Part Number 1: C98282; Tolerance: ±25%; Rated Current: 600mA; DC Resistance: 300mΩ; RoHS: Yes; ComponentLink1Description: Datasheet; ComponentLink1URL: https://wmsc.lcsc.com/wmsc/upload/file/pdf/v2/lcsc/2310301641_Sunlord-SZ2012G221TF_C98282.pdf; ComponentLink2Description: JLCPCB Part URL; ComponentLink2URL: https://jlcpcb.com/partdetail/C98282; ComponentLink3Description: LCSC Part URL; ComponentLink3URL: https://lcsc.com/product-detail/Ferrite-Beads_Sunlord-Sunlord-SZ2012G221TF_C98282.html
footprint FB-0805 (0805 (2012M) Ferrite)
pins: 1, 2

## SZ2012G301TF
designator FB?  Impedance @ Frequency: 300Ω@100MHz
Ferrite, 300Ω@100MHz, ±25%, SMD 0805; Manufacturer: Sunlord; Manufacturer Part Number: SZ2012G301TF; Package Size: 0805; JLCPCB Basic Part: No; JLCPCB Part Number: C919158; Supplier 1: LCSC; Category: Ferrite Beads; Supplier Part Number 1: C919158; Tolerance: ±25%; RoHS: Yes; ComponentLink1Description: Datasheet; ComponentLink1URL: https://wmsc.lcsc.com/wmsc/upload/file/pdf/v2/lcsc/2310301641_Sunlord-SZ2012G301TF_C919158.pdf; ComponentLink2Description: JLCPCB Part URL; ComponentLink2URL: https://jlcpcb.com/partdetail/C919158; ComponentLink3Description: LCSC Part URL; ComponentLink3URL: https://lcsc.com/product-detail/Ferrite-Beads_Sunlord-Sunlord-SZ2012G301TF_C919158.html
pins: 1, 2

## SZ2012G601TF
designator FB?  Impedance @ Frequency: 600Ω@100MHz
Ferrite, 600Ω@100MHz, ±25%, 450mΩ, 600mA, SMD 0805; Manufacturer: Sunlord; Manufacturer Part Number: SZ2012G601TF; Package Size: 0805; JLCPCB Basic Part: No; JLCPCB Part Number: C98283; Supplier 1: LCSC; Category: Ferrite Beads; Supplier Part Number 1: C98283; Tolerance: ±25%; Rated Current: 600mA; DC Resistance: 450mΩ; RoHS: Yes; ComponentLink1Description: Datasheet; ComponentLink1URL: https://wmsc.lcsc.com/wmsc/upload/file/pdf/v2/lcsc/2310301641_Sunlord-SZ2012G601TF_C98283.pdf; ComponentLink2Description: JLCPCB Part URL; ComponentLink2URL: https://jlcpcb.com/partdetail/C98283; ComponentLink3Description: LCSC Part URL; ComponentLink3URL: https://lcsc.com/product-detail/Ferrite-Beads_Sunlord-Sunlord-SZ2012G601TF_C98283.html
footprint FB-0805 (0805 (2012M) Ferrite)
pins: 1, 2

## SZ2012K102TF
designator FB?  Impedance @ Frequency: 1kΩ@100MHz
Ferrite, 1kΩ@100MHz, ±25%, 400mΩ, 500mA, SMD 0805; Manufacturer: Sunlord; Manufacturer Part Number: SZ2012K102TF; Package Size: 0805; JLCPCB Basic Part: No; JLCPCB Part Number: C316338; Supplier 1: LCSC; Category: Ferrite Beads; Supplier Part Number 1: C316338; Tolerance: ±25%; Rated Current: 500mA; DC Resistance: 400mΩ; RoHS: Yes; ComponentLink1Description: Datasheet; ComponentLink1URL: https://wmsc.lcsc.com/wmsc/upload/file/pdf/v2/lcsc/2310301641_Sunlord-SZ2012K102TF_C316338.pdf; ComponentLink2Description: JLCPCB Part URL; ComponentLink2URL: https://jlcpcb.com/partdetail/C316338; ComponentLink3Description: LCSC Part URL; ComponentLink3URL: https://lcsc.com/product-detail/Ferrite-Beads_Sunlord-Sunlord-SZ2012K102TF_C316338.html
footprint FB-0805 (0805 (2012M) Ferrite)
pins: 1, 2

## SZ2012K121TF
designator FB?  Impedance @ Frequency: 120Ω@100MHz
Ferrite, 120Ω@100MHz, ±25%, 200mΩ, 600mA, SMD 0805; Manufacturer: Sunlord; Manufacturer Part Number: SZ2012K121TF; Package Size: 0805; JLCPCB Basic Part: No; JLCPCB Part Number: C316337; Supplier 1: LCSC; Category: Ferrite Beads; Supplier Part Number 1: C316337; Tolerance: ±25%; Rated Current: 600mA; DC Resistance: 200mΩ; RoHS: Yes; ComponentLink1Description: Datasheet; ComponentLink1URL: https://wmsc.lcsc.com/wmsc/upload/file/pdf/v2/lcsc/2310301641_Sunlord-SZ2012K121TF_C316337.pdf; ComponentLink2Description: JLCPCB Part URL; ComponentLink2URL: https://jlcpcb.com/partdetail/C316337; ComponentLink3Description: LCSC Part URL; ComponentLink3URL: https://lcsc.com/product-detail/Ferrite-Beads_Sunlord-Sunlord-SZ2012K121TF_C316337.html
footprint FB-0805 (0805 (2012M) Ferrite)
pins: 1, 2

## SZ2012K222TF
designator FB?  Impedance @ Frequency: 2.2kΩ@100MHz
Ferrite, 2.2kΩ@100MHz, ±25%, 600mΩ, 200mA, SMD 0805; Manufacturer: Sunlord; Manufacturer Part Number: SZ2012K222TF; Package Size: 0805; JLCPCB Basic Part: No; JLCPCB Part Number: C96992; Supplier 1: LCSC; Category: Ferrite Beads; Supplier Part Number 1: C96992; Tolerance: ±25%; Rated Current: 200mA; DC Resistance: 600mΩ; RoHS: Yes; ComponentLink1Description: Datasheet; ComponentLink1URL: https://wmsc.lcsc.com/wmsc/upload/file/pdf/v2/lcsc/2310301641_Sunlord-SZ2012K222TF_C96992.pdf; ComponentLink2Description: JLCPCB Part URL; ComponentLink2URL: https://jlcpcb.com/partdetail/C96992; ComponentLink3Description: LCSC Part URL; ComponentLink3URL: https://lcsc.com/product-detail/Ferrite-Beads_Sunlord-Sunlord-SZ2012K222TF_C96992.html
footprint FB-0805 (0805 (2012M) Ferrite)
pins: 1, 2

## SZ2012K272TF
designator FB?  Impedance @ Frequency: 2.7kΩ@100MHz
Ferrite, 2.7kΩ@100MHz, ±25%, 800mΩ, 200mA, SMD 0805; Manufacturer: Sunlord; Manufacturer Part Number: SZ2012K272TF; Package Size: 0805; JLCPCB Basic Part: No; JLCPCB Part Number: C185876; Supplier 1: LCSC; Category: Ferrite Beads; Supplier Part Number 1: C185876; Tolerance: ±25%; Rated Current: 200mA; DC Resistance: 800mΩ; RoHS: Yes; ComponentLink1Description: Datasheet; ComponentLink1URL: https://wmsc.lcsc.com/wmsc/upload/file/pdf/v2/lcsc/2310301641_Sunlord-SZ2012K272TF_C185876.pdf; ComponentLink2Description: JLCPCB Part URL; ComponentLink2URL: https://jlcpcb.com/partdetail/C185876; ComponentLink3Description: LCSC Part URL; ComponentLink3URL: https://lcsc.com/product-detail/Ferrite-Beads_Sunlord-Sunlord-SZ2012K272TF_C185876.html
footprint FB-0805 (0805 (2012M) Ferrite)
pins: 1, 2

## SZ2012K301TF
designator FB?  Impedance @ Frequency: 300Ω@100MHz
Ferrite, 300Ω@100MHz, ±25%, 300mΩ, 600mA, SMD 0805; Manufacturer: Sunlord; Manufacturer Part Number: SZ2012K301TF; Package Size: 0805; JLCPCB Basic Part: No; JLCPCB Part Number: C316336; Supplier 1: LCSC; Category: Ferrite Beads; Supplier Part Number 1: C316336; Tolerance: ±25%; Rated Current: 600mA; DC Resistance: 300mΩ; RoHS: Yes; ComponentLink1Description: Datasheet; ComponentLink1URL: https://wmsc.lcsc.com/wmsc/upload/file/pdf/v2/lcsc/2310301641_Sunlord-SZ2012K301TF_C316336.pdf; ComponentLink2Description: JLCPCB Part URL; ComponentLink2URL: https://jlcpcb.com/partdetail/C316336; ComponentLink3Description: LCSC Part URL; ComponentLink3URL: https://lcsc.com/product-detail/Ferrite-Beads_Sunlord-Sunlord-SZ2012K301TF_C316336.html
footprint FB-0805 (0805 (2012M) Ferrite)
pins: 1, 2

## SZ2012K421TF
designator FB?  Impedance @ Frequency: 420Ω@100MHz
Ferrite, 420Ω@100MHz, ±25%, SMD 0805; Manufacturer: Sunlord; Manufacturer Part Number: SZ2012K421TF; Package Size: 0805; JLCPCB Basic Part: No; JLCPCB Part Number: C370567; Supplier 1: LCSC; Category: Ferrite Beads; Supplier Part Number 1: C370567; Tolerance: ±25%; RoHS: Yes; ComponentLink1Description: Datasheet; ComponentLink1URL: https://wmsc.lcsc.com/wmsc/upload/file/pdf/v2/lcsc/2310301641_Sunlord-SZ2012K421TF_C370567.pdf; ComponentLink2Description: JLCPCB Part URL; ComponentLink2URL: https://jlcpcb.com/partdetail/C370567; ComponentLink3Description: LCSC Part URL; ComponentLink3URL: https://lcsc.com/product-detail/Ferrite-Beads_Sunlord-Sunlord-SZ2012K421TF_C370567.html
pins: 1, 2

## SZ2012K601TF
designator FB?  Impedance @ Frequency: 600Ω@100MHz
Ferrite, 600Ω@100MHz, ±25%, 350mΩ, 600mA, SMD 0805; Manufacturer: Sunlord; Manufacturer Part Number: SZ2012K601TF; Package Size: 0805; JLCPCB Basic Part: No; JLCPCB Part Number: C316335; Supplier 1: LCSC; Category: Ferrite Beads; Supplier Part Number 1: C316335; Tolerance: ±25%; Rated Current: 600mA; DC Resistance: 350mΩ; RoHS: Yes; ComponentLink1Description: Datasheet; ComponentLink1URL: https://wmsc.lcsc.com/wmsc/upload/file/pdf/v2/lcsc/2310301641_Sunlord-SZ2012K601TF_C316335.pdf; ComponentLink2Description: JLCPCB Part URL; ComponentLink2URL: https://jlcpcb.com/partdetail/C316335; ComponentLink3Description: LCSC Part URL; ComponentLink3URL: https://lcsc.com/product-detail/Ferrite-Beads_Sunlord-Sunlord-SZ2012K601TF_C316335.html
footprint FB-0805 (0805 (2012M) Ferrite)
pins: 1, 2

## UPB201209T-101Y-N
designator FB?  Impedance @ Frequency: 100Ω@100MHz
Ferrite, 100Ω@100MHz, ±25%, 0.02Ω, 5000mA, SMD 0805; Manufacturer: Chilisin Elec; Manufacturer Part Number: UPB201209T-101Y-N; Package Size: 0805; JLCPCB Basic Part: No; JLCPCB Part Number: C285591; Supplier 1: LCSC; Category: Ferrite Beads; Supplier Part Number 1: C285591; Tolerance: ±25%; Rated Current: 5000mA; DC Resistance: 0.02Ω; RoHS: Yes; ComponentLink1Description: Datasheet; ComponentLink1URL: https://wmsc.lcsc.com/wmsc/upload/file/pdf/v2/lcsc/2304140030_Chilisin-Elec-UPB201209T-101Y-N_C285591.pdf; ComponentLink2Description: JLCPCB Part URL; ComponentLink2URL: https://jlcpcb.com/partdetail/C285591; ComponentLink3Description: LCSC Part URL; ComponentLink3URL: https://lcsc.com/product-detail/Ferrite-Beads_Chilisin-Elec-Chilisin-Elec-UPB201209T-101Y-N_C285591.html
footprint FB-0805 (0805 (2012M) Ferrite)
pins: 1, 2

## UPB201209T-121Y-N
designator FB?  Impedance @ Frequency: 120Ω@100MHz
Ferrite, 120Ω@100MHz, ±25%, 0.02Ω, 5000mA, SMD 0805; Manufacturer: Chilisin Elec; Manufacturer Part Number: UPB201209T-121Y-N; Package Size: 0805; JLCPCB Basic Part: No; JLCPCB Part Number: C280699; Supplier 1: LCSC; Category: Ferrite Beads; Supplier Part Number 1: C280699; Tolerance: ±25%; Rated Current: 5000mA; DC Resistance: 0.02Ω; RoHS: Yes; ComponentLink1Description: Datasheet; ComponentLink1URL: https://wmsc.lcsc.com/wmsc/upload/file/pdf/v2/lcsc/1912111437_Chilisin-Elec-UPB201209T-121Y-N_C280699.pdf; ComponentLink2Description: JLCPCB Part URL; ComponentLink2URL: https://jlcpcb.com/partdetail/C280699; ComponentLink3Description: LCSC Part URL; ComponentLink3URL: https://lcsc.com/product-detail/Ferrite-Beads_Chilisin-Elec-Chilisin-Elec-UPB201209T-121Y-N_C280699.html
footprint FB-0805 (0805 (2012M) Ferrite)
pins: 1, 2

## UPB201209T-221Y-N
designator FB?  Impedance @ Frequency: 220Ω@100MHz
Ferrite, 220Ω@100MHz, ±25%, 0.04Ω, 3000mA, SMD 0805; Manufacturer: Chilisin Elec; Manufacturer Part Number: UPB201209T-221Y-N; Package Size: 0805; JLCPCB Basic Part: No; JLCPCB Part Number: C285590; Supplier 1: LCSC; Category: Ferrite Beads; Supplier Part Number 1: C285590; Tolerance: ±25%; Rated Current: 3000mA; DC Resistance: 0.04Ω; RoHS: Yes; ComponentLink1Description: Datasheet; ComponentLink1URL: https://wmsc.lcsc.com/wmsc/upload/file/pdf/v2/lcsc/2304140030_Chilisin-Elec-UPB201209T-221Y-N_C285590.pdf; ComponentLink2Description: JLCPCB Part URL; ComponentLink2URL: https://jlcpcb.com/partdetail/C285590; ComponentLink3Description: LCSC Part URL; ComponentLink3URL: https://lcsc.com/product-detail/Ferrite-Beads_Chilisin-Elec-Chilisin-Elec-UPB201209T-221Y-N_C285590.html
footprint FB-0805 (0805 (2012M) Ferrite)
pins: 1, 2

## UPB201209T-300Y-N
designator FB?  Impedance @ Frequency: 30Ω@100MHz
Ferrite, 30Ω@100MHz, ±25%, 0.012Ω, 6000mA, SMD 0805; Manufacturer: Chilisin Elec; Manufacturer Part Number: UPB201209T-300Y-N; Package Size: 0805; JLCPCB Basic Part: No; JLCPCB Part Number: C280700; Supplier 1: LCSC; Category: Ferrite Beads; Supplier Part Number 1: C280700; Tolerance: ±25%; Rated Current: 6000mA; DC Resistance: 0.012Ω; RoHS: Yes; ComponentLink1Description: Datasheet; ComponentLink1URL: https://wmsc.lcsc.com/wmsc/upload/file/pdf/v2/lcsc/2304140030_Chilisin-Elec-UPB201209T-300Y-N_C280700.pdf; ComponentLink2Description: JLCPCB Part URL; ComponentLink2URL: https://jlcpcb.com/partdetail/C280700; ComponentLink3Description: LCSC Part URL; ComponentLink3URL: https://lcsc.com/product-detail/Ferrite-Beads_Chilisin-Elec-Chilisin-Elec-UPB201209T-300Y-N_C280700.html
footprint FB-0805 (0805 (2012M) Ferrite)
pins: 1, 2

## UPB201209T-301Y-N
designator FB?  Impedance @ Frequency: 300Ω@100MHz
Ferrite, 300Ω@100MHz, ±25%, 0.05Ω, 3000mA, SMD 0805; Manufacturer: Chilisin Elec; Manufacturer Part Number: UPB201209T-301Y-N; Package Size: 0805; JLCPCB Basic Part: No; JLCPCB Part Number: C280701; Supplier 1: LCSC; Category: Ferrite Beads; Supplier Part Number 1: C280701; Tolerance: ±25%; Rated Current: 3000mA; DC Resistance: 0.05Ω; RoHS: Yes; ComponentLink1Description: Datasheet; ComponentLink1URL: https://wmsc.lcsc.com/wmsc/upload/file/pdf/v2/lcsc/2304140030_Chilisin-Elec-UPB201209T-301Y-N_C280701.pdf; ComponentLink2Description: JLCPCB Part URL; ComponentLink2URL: https://jlcpcb.com/partdetail/C280701; ComponentLink3Description: LCSC Part URL; ComponentLink3URL: https://lcsc.com/product-detail/Ferrite-Beads_Chilisin-Elec-Chilisin-Elec-UPB201209T-301Y-N_C280701.html
footprint FB-0805 (0805 (2012M) Ferrite)
pins: 1, 2